# EAGLE library part PCA9685 (library 01)
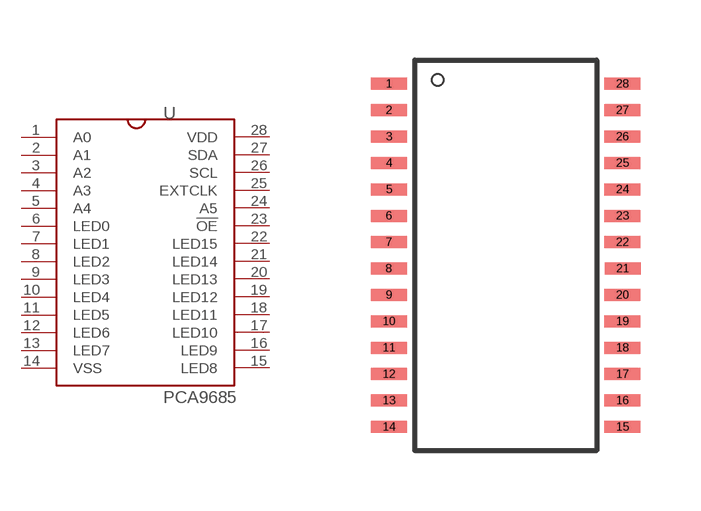
[diagram p8: symbol with the pads of TSSOP28; footprint TSSOP28]

Designator prefix U

## PCA9685  [TSSOP28]
1  A0
2  A1
3  A2
4  A3
5  A4
6  LED0
7  LED1
8  LED2
9  LED3
10  LED4
11  LED5
12  LED6
13  LED7
14  VSS
15  LED8
16  LED9
17  LED10
18  LED11
19  LED12
20  LED13
21  LED14
22  LED15
23  !OE
24  A5
25  EXTCLK
26  SCL
27  SDA
28  VDD

## Footprint TSSOP28 (pad centres in mm)
smd 0.9 x 0.3: 1 -2.921,4.623; 2 -2.921,3.962; 3 -2.921,3.302; 4 -2.921,2.642; 5 -2.921,1.981; 6 -2.921,1.321; 7 -2.921,0.66; 8 -2.927,0; 9 -2.921,-0.66; 10 -2.921,-1.321; 11 -2.921,-1.981; 12 -2.921,-2.642; 13 -2.921,-3.302; 14 -2.921,-3.962; 15 2.921,-3.962; 16 2.921,-3.302; 17 2.921,-2.642; 18 2.921,-1.981; 19 2.921,-1.321; 20 2.921,-0.66; 21 2.927,0; 22 2.921,0.66; 23 2.921,1.321; 24 2.921,1.981; 25 2.921,2.642; 26 2.921,3.302; 27 2.921,3.962; 28 2.921,4.623